# Altium footprint library WRTU.PcbLib: 55 footprints (part 4 of 4)
Each footprint in its own frame and in the unit in brackets; x right, y up, seen from the top. Pads: shape width x height; smd on the part's side, far side on the other; paste and mask are expansions set on the pad; w line width, h text height; cw(c..) or ccw(c..) is an arc to the next point about the centre after c.
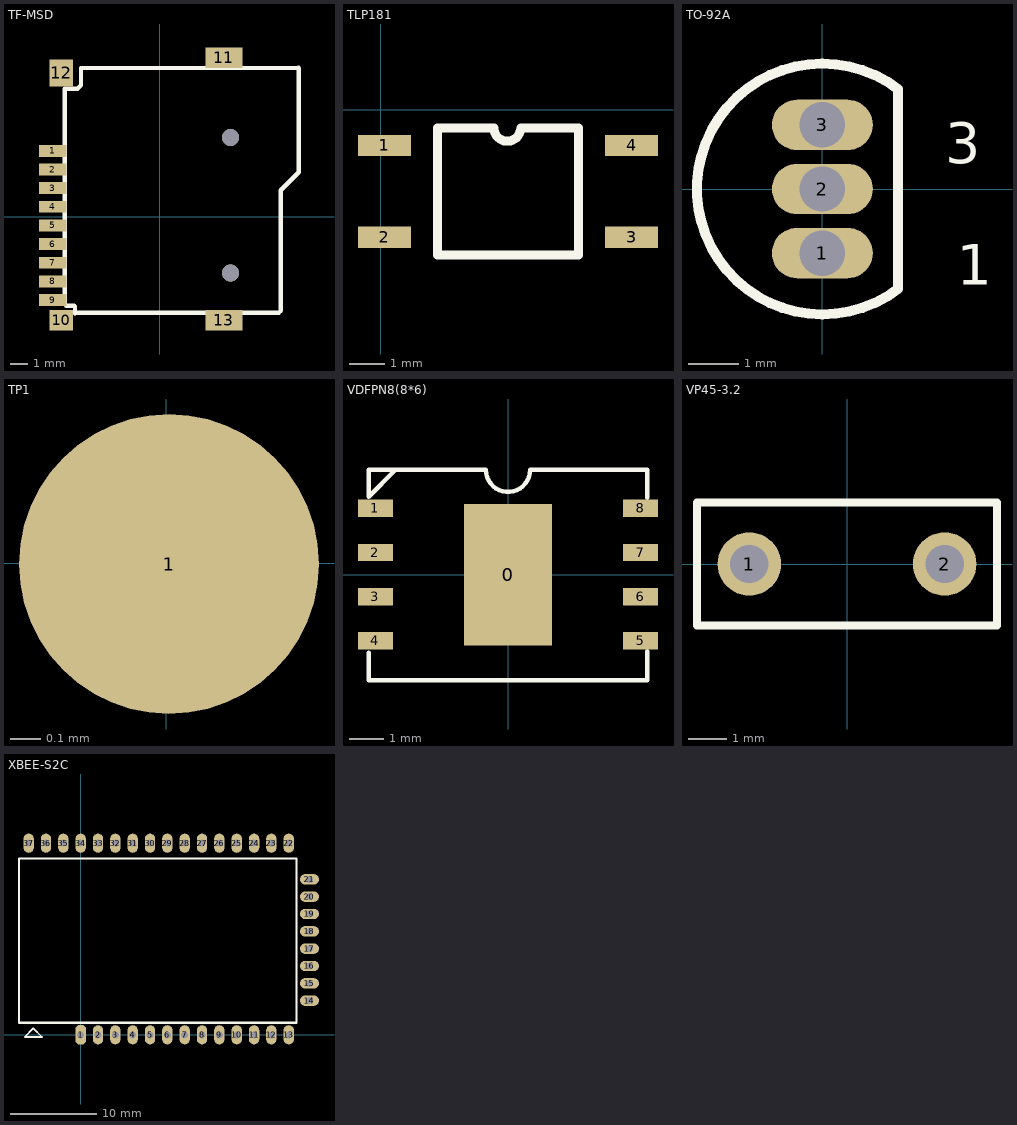
[diagram p3: the footprints below, top view; thin cyan lines are the x and y axes]

## TF-MSD [mm]
pads (13):
  rect 1.6x0.7 smd: 1(-6.32,3.901) 2(-6.32,2.801) 3(-6.32,1.701) 4(-6.32,0.601) 5(-6.32,-0.499) 6(-6.32,-1.599) 7(-6.32,-2.699) 8(-6.32,-3.799) 9(-6.32,-4.899)
  rect 1.4x1.2 smd: 10(-5.82,-6.099)
  rect 2.2x1.2 smd: 11(3.78,9.401) 13(3.78,-6.099)
  rect 1.4x1.6 smd: 12(-5.82,8.501)
via 4.18,4.701 diameter 1 hole 1
via 4.18,-3.299 diameter 1 hole 1
Top Layer:
  lines w0.254: -5.008,-5.693 -4.958,-5.642
Top Overlay:
  lines w0.254: -5.008,-5.693 -5.008,-5.286 -5.059,-5.235 -5.516,-5.235 -5.618,-5.134 -5.618,7.566 -4.856,7.566 -4.653,7.769 -4.653,8.785 8.18,8.801 ; -4.958,-5.642 7.031,-5.642 7.133,-5.54 7.133,1.572 8.2,2.639 8.2,8.781

## TLP181 [mm]
pads (4):
  rect 1.5x0.6 smd: 1(0.1,-1.016) 2(0.1,-3.616) 3(7.1,-3.616) 4(7.1,-1.016)
Top Overlay:
  lines w0.254: 1.6,-4.116 5.6,-4.116 5.6,-0.516 4,-0.516 ; 1.6,-4.091 1.6,-0.516 3.2,-0.516 ccw(c3.581,-0.516) 3.962,-0.516

## TO-92A [mm] "TO, Flat Index; 3 In-Line, Axial Leads; Body Dia. 4.5mm; Leads 0.51 x 0.48 mm (max)"
height 6.86
pads (3):
  oval 2x1 hole 0.9: 1(0,-1.27) 2(0,0) 3(0,1.27)
Top Overlay:
  lines w0.2: 1.5,-1.98 cw(c0,0) 1.5,1.98 1.5,-1.98
  text "1" at 2.66,-1.9 h0.8
  text "3" at 2.43,0.51 h0.8

## TP1 [mm]
pads (1):
  round 1 smd: 1(0.009,-0.003)

## VDFPN8(8*6) [mm]
pads (9):
  rect 2.54x4.064 smd: 0(0,0)
  rect 1x0.5 smd: 1(-3.81,1.905) 2(-3.81,0.635) 3(-3.81,-0.635) 4(-3.81,-1.905) 5(3.81,-1.905) 6(3.81,-0.635) 7(3.81,0.635) 8(3.81,1.905)
Top Overlay:
  lines w0.127: -4,-2.24 -4,-3.035 4,-3.035 4,-2.205 ; -3.23,3.01 -4,2.24 -4,3.01 -0.635,3.01 ccw(c0,3.01) 0.635,3.01 4,3.01 4,2.205

## VP45-3.2 [mm] "Capacitor, Ceramic, Thru-Hole, Dipped Radial; Body 7.8 x 3.2 mm (WxT) Pin Spacing 5.08 mm (typ)"
height 6
pads (2):
  round 1.65 hole 1: 1(-2.54,0) 2(2.54,0)
Top Overlay:
  lines w0.2: -3.9,-1.6 3.9,-1.6 3.9,1.6 -3.9,1.6 -3.9,-1.6

## XBEE-S2C [mm]
pads (37):
  oct 1.2x2.2 hole 0.8: 1(0,0)
  oval 1.2x2.2 hole 0.8: 2(2,0) 3(4,0) 4(6,0) 5(8,0) 6(10,0) 7(12,0) 8(14,0) 9(16,0) 10(18,0) 11(20,0) 12(22,0) 13(24,0) 22(24,22.095) 23(22,22.095) 24(20,22.095) 25(18,22.095) 26(16,22.095) 27(14,22.095) 28(12,22.095) 29(10,22.095) 30(8,22.095) 31(6,22.095) 32(4,22.095) 33(2,22.095) 34(0,22.095) 35(-2,22.095) 36(-4,22.095) 37(-6,22.095)
  oval 2.2x1.2 hole 0.8: 14(26.389,3.934) 15(26.389,5.934) 16(26.389,7.934) 17(26.389,9.934) 18(26.389,11.934) 19(26.389,13.934) 20(26.389,15.934) 21(26.389,17.934)
Top Overlay:
  lines w0.2: -6.461,-0.254 -4.461,-0.254 -5.461,0.746 -6.461,-0.254
  lines w0.254: -7.112,1.397 -7.112,20.32 24.892,20.32 24.892,1.397 -7.112,1.397